# Altium footprint library IS-IG-2.PcbLib: 1 footprints
Each footprint in its own frame and in the unit in brackets; x right, y up, seen from the top. Pads: shape width x height; smd on the part's side, far side on the other; paste and mask are expansions set on the pad; w line width, h text height; cw(c..) or ccw(c..) is an arc to the next point about the centre after c.
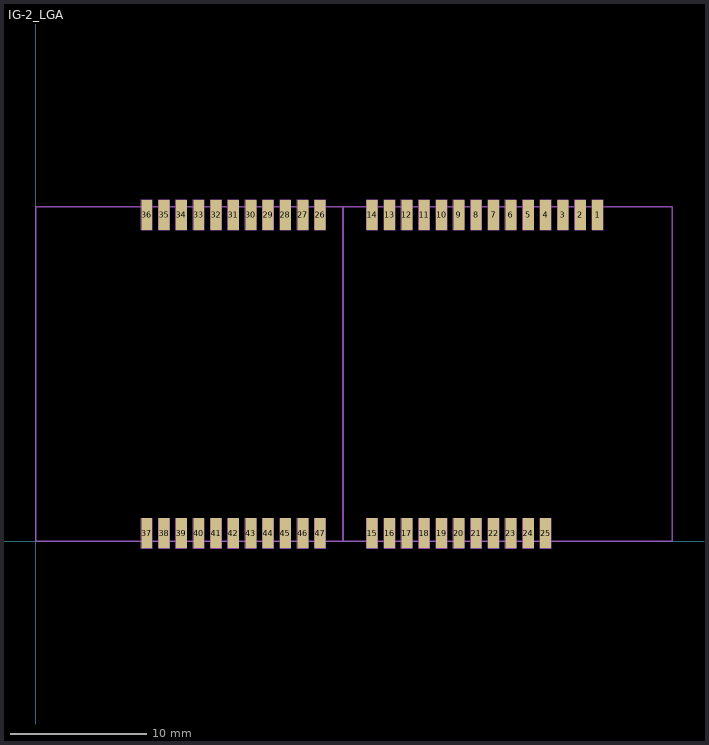
[diagram p0: the footprint, top view; thin cyan lines are the x and y axes]

## IG-2_LGA [mm] "IMX multi-frequency RTK-GNSS Module"
height 5.93
pads (47):
  rect 0.8x2.2 smd paste-2.54: 1(41.143,23.9) 2(39.873,23.9) 3(38.603,23.9) 4(37.333,23.9) 5(36.063,23.9) 6(34.793,23.9) 7(33.523,23.9) 8(32.253,23.9) 9(30.983,23.9) 10(29.713,23.9) 11(28.443,23.9) 12(27.173,23.9) 13(25.903,23.9) 14(24.633,23.9) 15(24.633,0.6) 16(25.903,0.6) 17(27.173,0.6) 18(28.443,0.6) 19(29.713,0.6) 20(30.983,0.6) 21(32.253,0.6) 22(33.523,0.6) 23(34.793,0.6) 24(36.063,0.6) 25(37.333,0.6) 26(20.823,23.9) 27(19.553,23.9) 28(18.283,23.9) 29(17.013,23.9) 30(15.743,23.9) 31(14.473,23.9) 32(13.203,23.9) 33(11.933,23.9) 34(10.663,23.9) 35(9.393,23.9) 36(8.123,23.9) 37(8.123,0.6) 38(9.393,0.6) 39(10.663,0.6) 40(11.933,0.6) 41(13.203,0.6) 42(14.473,0.6) 43(15.743,0.6) 44(17.013,0.6) 45(18.283,0.6) 46(19.553,0.6) 47(20.823,0.6)
Mechanical 1:
  drawing of 192 lines, arcs and shapes, not listed
Mechanical 13:
  lines w0.127: 22.493,0 22.493,24.5 ; 0,0 0,24.5 46.6,24.5 46.6,0 0,0
Mechanical 16:
  drawing of 294 lines, arcs and shapes, not listed
3D body "IG-2.0.step": height 5.95, standoff 0.01, extent 0,-1.188 46.6,24.5